# Altium integrated library Microchip Microcontroller 8-Bit PIC10.IntLib: 60 symbols (part 2 of 2)
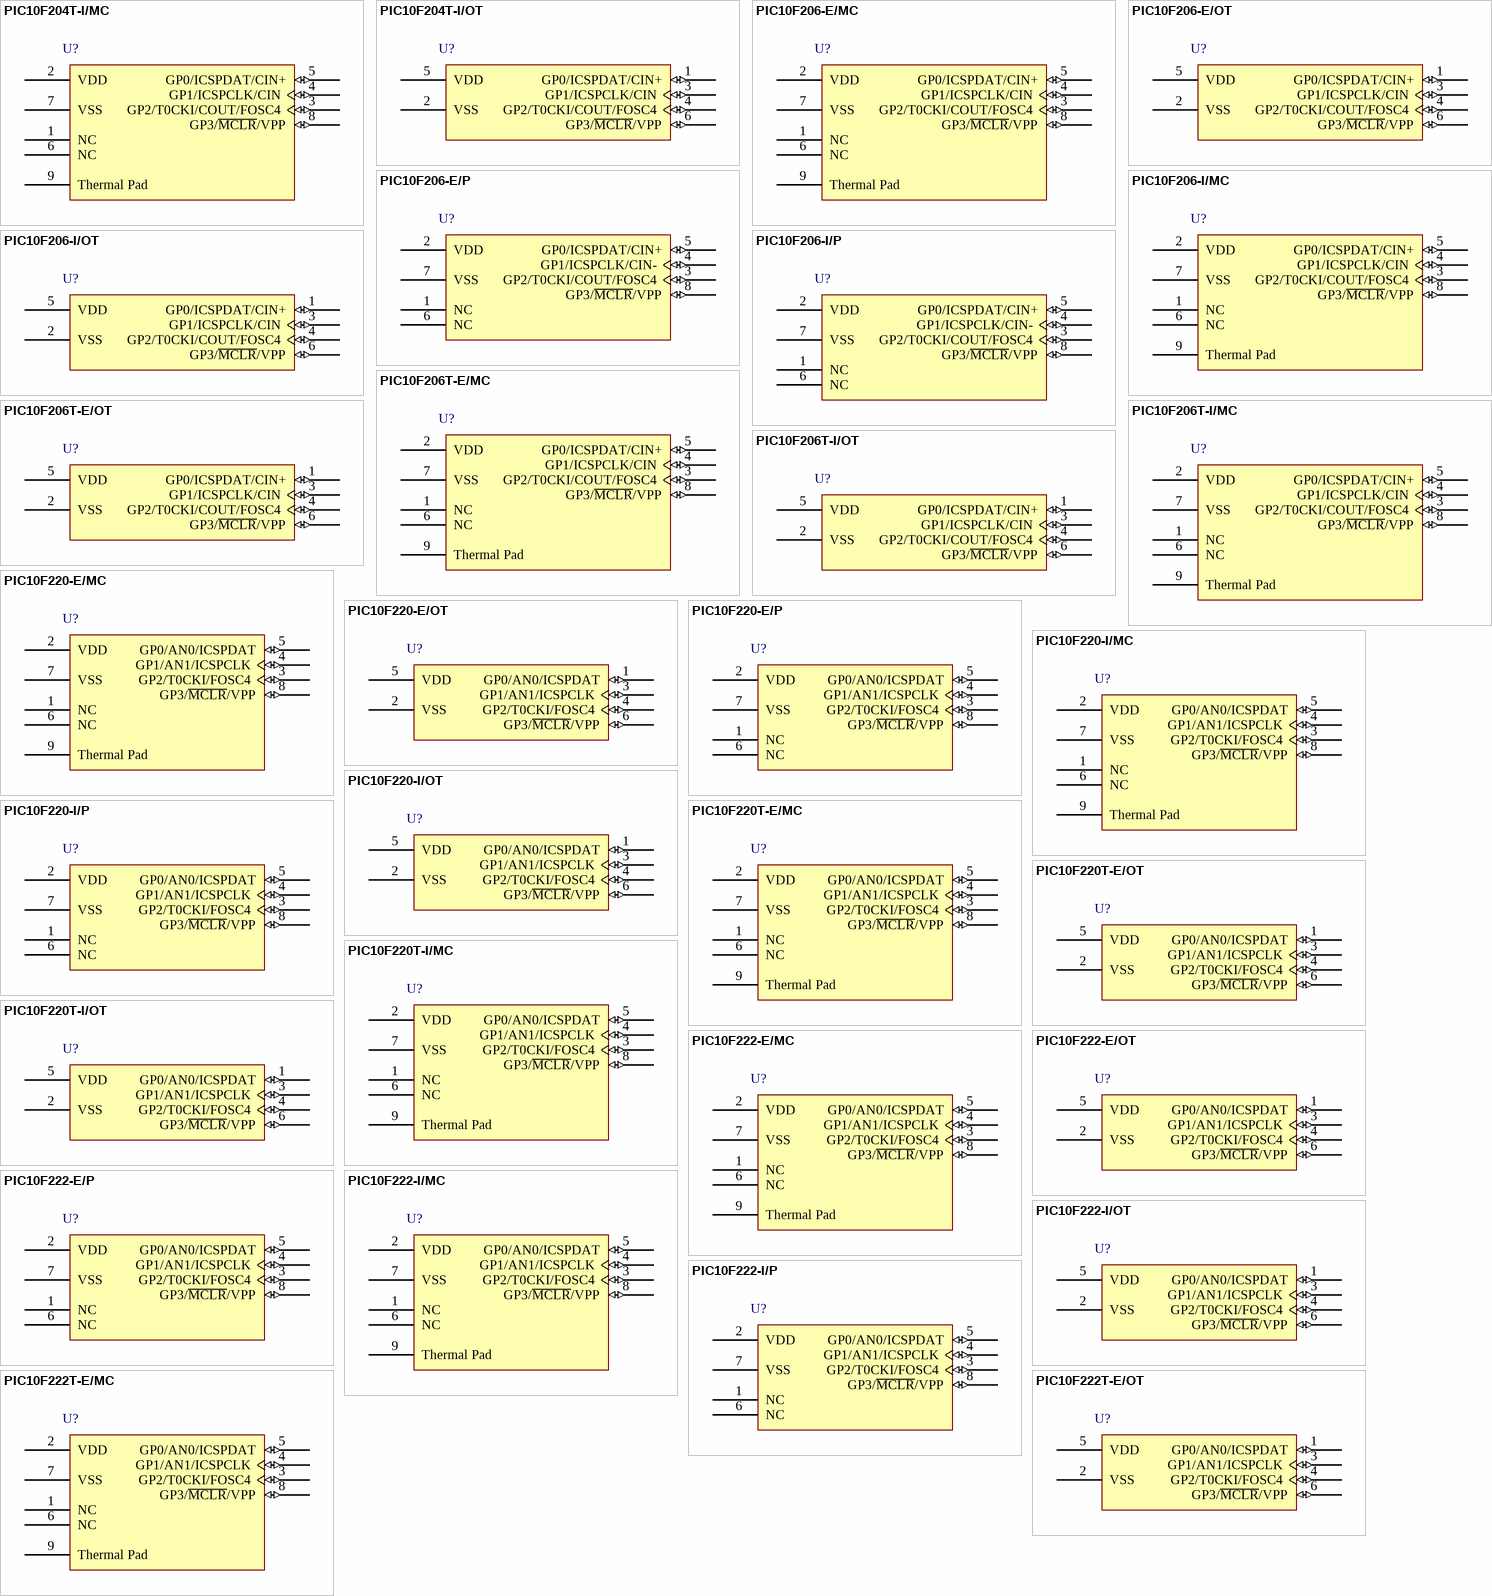
[diagram p3: symbols PIC10F204T-I/MC to PIC10F222T-E/OT]

## PIC10F220-E/P
designator U?
High-Performance Microcontroller with 8-bit A/D, 256 (x12-Bit words) Program Memory, 16 Bytes Data Memory, 8-Pin PDIP, Extended Temperature; Published: 29-Jan-2009; DatasheetVersion: revE, Jun-2007; PackageVersion: revBB, Aug-2009; PackageReference: PDIP300-P8; Publisher: Altium Limited; PackageDescription: 8-Lead Plastic Dual In-Line (P) - 300 mil Body [PDIP]; Supplier 1: Digi-Key; Supplier Part Number 1: PIC10F220-E/P-ND; Code_JEDEC: MS-001; ComponentLink1Description: Datasheet; ComponentLink1URL: http://ww1.microchip.com/downloads/en/DeviceDoc/41270E.pdf; ComponentLink2Description: Packaging Specification; ComponentLink2URL: http://www.microchip.com/stellent/groups/techpub_sg/documents/packagingspec/en012702.pdf; ComponentLink3Description: Microchip.com Home; ComponentLink3URL: http://www.microchip.com/
footprint PDIP300-P8 (DIP, 8-Leads, Row Spacing 7.62mm, Pitch 2.54mm, Body 9.5x6.6mm)
pins: 1 NC, 2 VDD (power), 3 GP2/T0CKI/FOSC4 (io), 4 GP1/AN1/ICSPCLK (io), 5 GP0/AN0/ICSPDAT (io), 6 NC, 7 VSS (power), 8 GP3/~{MCLR}/VPP (io)

## PIC10F220-I/MC
designator U?
High-Performance Microcontroller with 8-bit A/D, 256 (x12-Bit words) Program Memory, 16 Bytes Data Memory, 8-Pin DFN, Industrial Temperature; Published: 29-Jan-2009; DatasheetVersion: revE, Jun-2007; PackageVersion: revBB, Aug-2009; PackageReference: DFN-MC8; Publisher: Altium Limited; PackageDescription: 8-Lead Plastic Dual Flat, No Lead Package (MC) - 2x3x0.9mm Body [DFN]; Supplier 1: Digi-Key; Supplier Part Number 1: PIC10F220-I/MC-ND; ComponentLink1Description: Datasheet; ComponentLink1URL: http://ww1.microchip.com/downloads/en/DeviceDoc/41270E.pdf; ComponentLink2Description: Packaging Specification; ComponentLink2URL: http://www.microchip.com/stellent/groups/techpub_sg/documents/packagingspec/en012702.pdf; ComponentLink3Description: Microchip.com Home; ComponentLink3URL: http://www.microchip.com/
footprint DFN-MC8 (SON, 8-Leads, Body 2x3mm, Pitch 0.5mm, Microchip Recommended)
pins: 1 NC, 2 VDD (power), 3 GP2/T0CKI/FOSC4 (io), 4 GP1/AN1/ICSPCLK (io), 5 GP0/AN0/ICSPDAT (io), 6 NC, 7 VSS (power), 8 GP3/~{MCLR}/VPP (io), 9 Thermal Pad

## PIC10F220-I/OT
designator U?
High-Performance Microcontroller with 8-bit A/D, 256 (x12-Bit words) Program Memory, 16 Bytes Data Memory, 6-Pin SOT-23, Industrial Temperature; Published: 29-Jan-2009; DatasheetVersion: revE, Jun-2007; PackageVersion: revBB, Aug-2009; PackageReference: SOT-23-OT6; Publisher: Altium Limited; PackageDescription: 6-Lead Plastic Small Outline Transistor (OT) [SOT-23]; Code_IPC: SOT26A-6; ComponentLink1Description: Datasheet; ComponentLink1URL: http://ww1.microchip.com/downloads/en/DeviceDoc/41270E.pdf; ComponentLink2Description: Packaging Specification; ComponentLink2URL: http://www.microchip.com/stellent/groups/techpub_sg/documents/packagingspec/en012702.pdf; ComponentLink3Description: Microchip.com Home; ComponentLink3URL: http://www.microchip.com/
footprint SOT-23-OT6_N (SOT23, 6-Leads, Body 2.9x1.6mm, Pitch 0.95mm, Lead Span 2.7mm, IPC Medium Density)
footprint SOT-23-OT6_L (SOT23, 6-Leads, Body 2.9x1.6mm, Pitch 0.95mm, Lead Span 2.7mm, IPC High Density)
footprint SOT-23-OT6_M (SOT23, 6-Leads, Body 2.9x1.6mm, Pitch 0.95mm, Lead Span 2.7mm, IPC Low Density)
pins: 1 GP0/AN0/ICSPDAT (io), 2 VSS (power), 3 GP1/AN1/ICSPCLK (io), 4 GP2/T0CKI/FOSC4 (io), 5 VDD (power), 6 GP3/~{MCLR}/VPP (io)

## PIC10F220-I/P
designator U?
High-Performance Microcontroller with 8-bit A/D, 256 (x12-Bit words) Program Memory, 16 Bytes Data Memory, 8-Pin PDIP, Industrial Temperature; Published: 29-Jan-2009; DatasheetVersion: revE, Jun-2007; PackageVersion: revBB, Aug-2009; PackageReference: PDIP300-P8; Publisher: Altium Limited; PackageDescription: 8-Lead Plastic Dual In-Line (P) - 300 mil Body [PDIP]; Supplier 1: Digi-Key; Supplier Part Number 1: PIC10F220-I/P-ND; Supplier 2: Farnell; Supplier Part Number 2: 9892508; Code_JEDEC: MS-001; ComponentLink1Description: Datasheet; ComponentLink1URL: http://ww1.microchip.com/downloads/en/DeviceDoc/41270E.pdf; ComponentLink2Description: Packaging Specification; ComponentLink2URL: http://www.microchip.com/stellent/groups/techpub_sg/documents/packagingspec/en012702.pdf; ComponentLink3Description: Microchip.com Home; ComponentLink3URL: http://www.microchip.com/
footprint PDIP300-P8 (DIP, 8-Leads, Row Spacing 7.62mm, Pitch 2.54mm, Body 9.5x6.6mm)
pins: 1 NC, 2 VDD (power), 3 GP2/T0CKI/FOSC4 (io), 4 GP1/AN1/ICSPCLK (io), 5 GP0/AN0/ICSPDAT (io), 6 NC, 7 VSS (power), 8 GP3/~{MCLR}/VPP (io)

## PIC10F220T-E/MC
designator U?
High-Performance Microcontroller with 8-bit A/D, 256 (x12-Bit words) Program Memory, 16 Bytes Data Memory, 8-Pin DFN, Extended Temperature, Tape and Reel; Published: 29-Jan-2009; DatasheetVersion: revE, Jun-2007; PackageVersion: revBB, Aug-2009; PackageReference: DFN-MC8; Publisher: Altium Limited; PackageDescription: 8-Lead Plastic Dual Flat, No Lead Package (MC) - 2x3x0.9mm Body [DFN]; ComponentLink1Description: Datasheet; ComponentLink1URL: http://ww1.microchip.com/downloads/en/DeviceDoc/41270E.pdf; ComponentLink2Description: Packaging Specification; ComponentLink2URL: http://www.microchip.com/stellent/groups/techpub_sg/documents/packagingspec/en012702.pdf; ComponentLink3Description: Microchip.com Home; ComponentLink3URL: http://www.microchip.com/
footprint DFN-MC8 (SON, 8-Leads, Body 2x3mm, Pitch 0.5mm, Microchip Recommended)
pins: 1 NC, 2 VDD (power), 3 GP2/T0CKI/FOSC4 (io), 4 GP1/AN1/ICSPCLK (io), 5 GP0/AN0/ICSPDAT (io), 6 NC, 7 VSS (power), 8 GP3/~{MCLR}/VPP (io), 9 Thermal Pad

## PIC10F220T-E/OT
designator U?
High-Performance Microcontroller with 8-bit A/D, 256 (x12-Bit words) Program Memory, 16 Bytes Data Memory, 6-Pin SOT-23, Extended Temperature, Tape and Reel; Published: 29-Jan-2009; DatasheetVersion: revE, Jun-2007; PackageVersion: revBB, Aug-2009; PackageReference: SOT-23-OT6; Publisher: Altium Limited; PackageDescription: 6-Lead Plastic Small Outline Transistor (OT) [SOT-23]; Supplier 1: Digi-Key; Supplier Part Number 1: PIC10F220T-E/OT-ND; Code_IPC: SOT26A-6; ComponentLink1Description: Datasheet; ComponentLink1URL: http://ww1.microchip.com/downloads/en/DeviceDoc/41270E.pdf; ComponentLink2Description: Packaging Specification; ComponentLink2URL: http://www.microchip.com/stellent/groups/techpub_sg/documents/packagingspec/en012702.pdf; ComponentLink3Description: Microchip.com Home; ComponentLink3URL: http://www.microchip.com/
footprint SOT-23-OT6_N (SOT23, 6-Leads, Body 2.9x1.6mm, Pitch 0.95mm, Lead Span 2.7mm, IPC Medium Density)
footprint SOT-23-OT6_L (SOT23, 6-Leads, Body 2.9x1.6mm, Pitch 0.95mm, Lead Span 2.7mm, IPC High Density)
footprint SOT-23-OT6_M (SOT23, 6-Leads, Body 2.9x1.6mm, Pitch 0.95mm, Lead Span 2.7mm, IPC Low Density)
pins: 1 GP0/AN0/ICSPDAT (io), 2 VSS (power), 3 GP1/AN1/ICSPCLK (io), 4 GP2/T0CKI/FOSC4 (io), 5 VDD (power), 6 GP3/~{MCLR}/VPP (io)

## PIC10F220T-I/MC
designator U?
High-Performance Microcontroller with 8-bit A/D, 256 (x12-Bit words) Program Memory, 16 Bytes Data Memory, 8-Pin DFN, Industrial Temperature, Tape and Reel; Published: 29-Jan-2009; DatasheetVersion: revE, Jun-2007; PackageVersion: revBB, Aug-2009; PackageReference: DFN-MC8; Publisher: Altium Limited; PackageDescription: 8-Lead Plastic Dual Flat, No Lead Package (MC) - 2x3x0.9mm Body [DFN]; Supplier 1: Digi-Key; Supplier Part Number 1: PIC10F220T-I/MC-ND; Supplier 2: Farnell; Supplier Part Number 2: 1332174; ComponentLink1Description: Datasheet; ComponentLink1URL: http://ww1.microchip.com/downloads/en/DeviceDoc/41270E.pdf; ComponentLink2Description: Packaging Specification; ComponentLink2URL: http://www.microchip.com/stellent/groups/techpub_sg/documents/packagingspec/en012702.pdf; ComponentLink3Description: Microchip.com Home; ComponentLink3URL: http://www.microchip.com/
footprint DFN-MC8 (SON, 8-Leads, Body 2x3mm, Pitch 0.5mm, Microchip Recommended)
pins: 1 NC, 2 VDD (power), 3 GP2/T0CKI/FOSC4 (io), 4 GP1/AN1/ICSPCLK (io), 5 GP0/AN0/ICSPDAT (io), 6 NC, 7 VSS (power), 8 GP3/~{MCLR}/VPP (io), 9 Thermal Pad

## PIC10F220T-I/OT
designator U?
High-Performance Microcontroller with 8-bit A/D, 256 (x12-Bit words) Program Memory, 16 Bytes Data Memory, 6-Pin SOT-23, Industrial Temperature, Tape and Reel; Published: 29-Jan-2009; DatasheetVersion: revE, Jun-2007; PackageVersion: revBB, Aug-2009; PackageReference: SOT-23-OT6; Publisher: Altium Limited; PackageDescription: 6-Lead Plastic Small Outline Transistor (OT) [SOT-23]; Supplier 1: Digi-Key; Supplier Part Number 1: PIC10F220T-I/OTTR-ND; Supplier 2: Digi-Key; Supplier Part Number 2: PIC10F220T-I/OTCT-ND; Supplier 3: Digi-Key; Supplier Part Number 3: PIC10F220T-I/OTDKR-ND; Supplier 4: Farnell; Supplier Part Number 4: 1332175; Code_IPC: SOT26A-6; ComponentLink1Description: Datasheet; ComponentLink1URL: http://ww1.microchip.com/downloads/en/DeviceDoc/41270E.pdf; ComponentLink2Description: Packaging Specification; ComponentLink2URL: http://www.microchip.com/stellent/groups/techpub_sg/documents/packagingspec/en012702.pdf; ComponentLink3Description: Microchip.com Home; ComponentLink3URL: http://www.microchip.com/
footprint SOT-23-OT6_N (SOT23, 6-Leads, Body 2.9x1.6mm, Pitch 0.95mm, Lead Span 2.7mm, IPC Medium Density)
footprint SOT-23-OT6_L (SOT23, 6-Leads, Body 2.9x1.6mm, Pitch 0.95mm, Lead Span 2.7mm, IPC High Density)
footprint SOT-23-OT6_M (SOT23, 6-Leads, Body 2.9x1.6mm, Pitch 0.95mm, Lead Span 2.7mm, IPC Low Density)
pins: 1 GP0/AN0/ICSPDAT (io), 2 VSS (power), 3 GP1/AN1/ICSPCLK (io), 4 GP2/T0CKI/FOSC4 (io), 5 VDD (power), 6 GP3/~{MCLR}/VPP (io)

## PIC10F222-E/MC
designator U?
High-Performance Microcontroller with 8-bit A/D, 512 (x12-Bit words) Program Memory, 23 Bytes Data Memory, 8-Pin DFN, Extended Temperature; Published: 29-Jan-2009; DatasheetVersion: revE, Jun-2007; PackageVersion: revBB, Aug-2009; PackageReference: DFN-MC8; Publisher: Altium Limited; PackageDescription: 8-Lead Plastic Dual Flat, No Lead Package (MC) - 2x3x0.9mm Body [DFN]; Supplier 1: Digi-Key; Supplier Part Number 1: PIC10F222-E/MC-ND; ComponentLink1Description: Datasheet; ComponentLink1URL: http://ww1.microchip.com/downloads/en/DeviceDoc/41270E.pdf; ComponentLink2Description: Packaging Specification; ComponentLink2URL: http://www.microchip.com/stellent/groups/techpub_sg/documents/packagingspec/en012702.pdf; ComponentLink3Description: Microchip.com Home; ComponentLink3URL: http://www.microchip.com/
footprint DFN-MC8 (SON, 8-Leads, Body 2x3mm, Pitch 0.5mm, Microchip Recommended)
pins: 1 NC, 2 VDD (power), 3 GP2/T0CKI/FOSC4 (io), 4 GP1/AN1/ICSPCLK (io), 5 GP0/AN0/ICSPDAT (io), 6 NC, 7 VSS (power), 8 GP3/~{MCLR}/VPP (io), 9 Thermal Pad

## PIC10F222-E/OT
designator U?
High-Performance Microcontroller with 8-bit A/D, 512 (x12-Bit words) Program Memory, 23 Bytes Data Memory, 6-Pin SOT-23, Extended Temperature; Published: 29-Jan-2009; DatasheetVersion: revE, Jun-2007; PackageVersion: revBB, Aug-2009; PackageReference: SOT-23-OT6; Publisher: Altium Limited; PackageDescription: 6-Lead Plastic Small Outline Transistor (OT) [SOT-23]; Code_IPC: SOT26A-6; ComponentLink1Description: Datasheet; ComponentLink1URL: http://ww1.microchip.com/downloads/en/DeviceDoc/41270E.pdf; ComponentLink2Description: Packaging Specification; ComponentLink2URL: http://www.microchip.com/stellent/groups/techpub_sg/documents/packagingspec/en012702.pdf; ComponentLink3Description: Microchip.com Home; ComponentLink3URL: http://www.microchip.com/
footprint SOT-23-OT6_N (SOT23, 6-Leads, Body 2.9x1.6mm, Pitch 0.95mm, Lead Span 2.7mm, IPC Medium Density)
footprint SOT-23-OT6_L (SOT23, 6-Leads, Body 2.9x1.6mm, Pitch 0.95mm, Lead Span 2.7mm, IPC High Density)
footprint SOT-23-OT6_M (SOT23, 6-Leads, Body 2.9x1.6mm, Pitch 0.95mm, Lead Span 2.7mm, IPC Low Density)
pins: 1 GP0/AN0/ICSPDAT (io), 2 VSS (power), 3 GP1/AN1/ICSPCLK (io), 4 GP2/T0CKI/FOSC4 (io), 5 VDD (power), 6 GP3/~{MCLR}/VPP (io)

## PIC10F222-E/P
designator U?
High-Performance Microcontroller with 8-bit A/D, 512 (x12-Bit words) Program Memory, 23 Bytes Data Memory, 8-Pin PDIP, Extended Temperature; Published: 29-Jan-2009; DatasheetVersion: revE, Jun-2007; PackageVersion: revBB, Aug-2009; PackageReference: PDIP300-P8; Publisher: Altium Limited; PackageDescription: 8-Lead Plastic Dual In-Line (P) - 300 mil Body [PDIP]; Supplier 1: Digi-Key; Supplier Part Number 1: PIC10F222-E/P-ND; Supplier 2: Farnell; Supplier Part Number 2: 1262566; Supplier 3: Farnell; Supplier Part Number 3: 1467796; Code_JEDEC: MS-001; ComponentLink1Description: Datasheet; ComponentLink1URL: http://ww1.microchip.com/downloads/en/DeviceDoc/41270E.pdf; ComponentLink2Description: Packaging Specification; ComponentLink2URL: http://www.microchip.com/stellent/groups/techpub_sg/documents/packagingspec/en012702.pdf; ComponentLink3Description: Microchip.com Home; ComponentLink3URL: http://www.microchip.com/
footprint PDIP300-P8 (DIP, 8-Leads, Row Spacing 7.62mm, Pitch 2.54mm, Body 9.5x6.6mm)
pins: 1 NC, 2 VDD (power), 3 GP2/T0CKI/FOSC4 (io), 4 GP1/AN1/ICSPCLK (io), 5 GP0/AN0/ICSPDAT (io), 6 NC, 7 VSS (power), 8 GP3/~{MCLR}/VPP (io)

## PIC10F222-I/MC
designator U?
High-Performance Microcontroller with 8-bit A/D, 512 (x12-Bit words) Program Memory, 23 Bytes Data Memory, 8-Pin DFN, Industrial Temperature; Published: 29-Jan-2009; DatasheetVersion: revE, Jun-2007; PackageVersion: revBB, Aug-2009; PackageReference: DFN-MC8; Publisher: Altium Limited; PackageDescription: 8-Lead Plastic Dual Flat, No Lead Package (MC) - 2x3x0.9mm Body [DFN]; Supplier 1: Digi-Key; Supplier Part Number 1: PIC10F222-I/MC-ND; ComponentLink1Description: Datasheet; ComponentLink1URL: http://ww1.microchip.com/downloads/en/DeviceDoc/41270E.pdf; ComponentLink2Description: Packaging Specification; ComponentLink2URL: http://www.microchip.com/stellent/groups/techpub_sg/documents/packagingspec/en012702.pdf; ComponentLink3Description: Microchip.com Home; ComponentLink3URL: http://www.microchip.com/
footprint DFN-MC8 (SON, 8-Leads, Body 2x3mm, Pitch 0.5mm, Microchip Recommended)
pins: 1 NC, 2 VDD (power), 3 GP2/T0CKI/FOSC4 (io), 4 GP1/AN1/ICSPCLK (io), 5 GP0/AN0/ICSPDAT (io), 6 NC, 7 VSS (power), 8 GP3/~{MCLR}/VPP (io), 9 Thermal Pad

## PIC10F222-I/OT
designator U?
High-Performance Microcontroller with 8-bit A/D, 512 (x12-Bit words) Program Memory, 23 Bytes Data Memory, 6-Pin SOT-23, Industrial Temperature; Published: 29-Jan-2009; DatasheetVersion: revE, Jun-2007; PackageVersion: revBB, Aug-2009; PackageReference: SOT-23-OT6; Publisher: Altium Limited; PackageDescription: 6-Lead Plastic Small Outline Transistor (OT) [SOT-23]; Code_IPC: SOT26A-6; ComponentLink1Description: Datasheet; ComponentLink1URL: http://ww1.microchip.com/downloads/en/DeviceDoc/41270E.pdf; ComponentLink2Description: Packaging Specification; ComponentLink2URL: http://www.microchip.com/stellent/groups/techpub_sg/documents/packagingspec/en012702.pdf; ComponentLink3Description: Microchip.com Home; ComponentLink3URL: http://www.microchip.com/
footprint SOT-23-OT6_N (SOT23, 6-Leads, Body 2.9x1.6mm, Pitch 0.95mm, Lead Span 2.7mm, IPC Medium Density)
footprint SOT-23-OT6_L (SOT23, 6-Leads, Body 2.9x1.6mm, Pitch 0.95mm, Lead Span 2.7mm, IPC High Density)
footprint SOT-23-OT6_M (SOT23, 6-Leads, Body 2.9x1.6mm, Pitch 0.95mm, Lead Span 2.7mm, IPC Low Density)
pins: 1 GP0/AN0/ICSPDAT (io), 2 VSS (power), 3 GP1/AN1/ICSPCLK (io), 4 GP2/T0CKI/FOSC4 (io), 5 VDD (power), 6 GP3/~{MCLR}/VPP (io)

## PIC10F222-I/P
designator U?
High-Performance Microcontroller with 8-bit A/D, 512 (x12-Bit words) Program Memory, 23 Bytes Data Memory, 8-Pin PDIP, Industrial Temperature; Published: 29-Jan-2009; DatasheetVersion: revE, Jun-2007; PackageVersion: revBB, Aug-2009; PackageReference: PDIP300-P8; Publisher: Altium Limited; PackageDescription: 8-Lead Plastic Dual In-Line (P) - 300 mil Body [PDIP]; Supplier 1: Digi-Key; Supplier Part Number 1: PIC10F222-I/P-ND; Supplier 2: Farnell; Supplier Part Number 2: 9892516; Code_JEDEC: MS-001; ComponentLink1Description: Datasheet; ComponentLink1URL: http://ww1.microchip.com/downloads/en/DeviceDoc/41270E.pdf; ComponentLink2Description: Packaging Specification; ComponentLink2URL: http://www.microchip.com/stellent/groups/techpub_sg/documents/packagingspec/en012702.pdf; ComponentLink3Description: Microchip.com Home; ComponentLink3URL: http://www.microchip.com/
footprint PDIP300-P8 (DIP, 8-Leads, Row Spacing 7.62mm, Pitch 2.54mm, Body 9.5x6.6mm)
pins: 1 NC, 2 VDD (power), 3 GP2/T0CKI/FOSC4 (io), 4 GP1/AN1/ICSPCLK (io), 5 GP0/AN0/ICSPDAT (io), 6 NC, 7 VSS (power), 8 GP3/~{MCLR}/VPP (io)

## PIC10F222T-E/MC
designator U?
High-Performance Microcontroller with 8-bit A/D, 512 (x12-Bit words) Program Memory, 23 Bytes Data Memory, 8-Pin DFN, Extended Temperature, Tape and Reel; Published: 29-Jan-2009; DatasheetVersion: revE, Jun-2007; PackageVersion: revBB, Aug-2009; PackageReference: DFN-MC8; Publisher: Altium Limited; PackageDescription: 8-Lead Plastic Dual Flat, No Lead Package (MC) - 2x3x0.9mm Body [DFN]; ComponentLink1Description: Datasheet; ComponentLink1URL: http://ww1.microchip.com/downloads/en/DeviceDoc/41270E.pdf; ComponentLink2Description: Packaging Specification; ComponentLink2URL: http://www.microchip.com/stellent/groups/techpub_sg/documents/packagingspec/en012702.pdf; ComponentLink3Description: Microchip.com Home; ComponentLink3URL: http://www.microchip.com/
footprint DFN-MC8 (SON, 8-Leads, Body 2x3mm, Pitch 0.5mm, Microchip Recommended)
pins: 1 NC, 2 VDD (power), 3 GP2/T0CKI/FOSC4 (io), 4 GP1/AN1/ICSPCLK (io), 5 GP0/AN0/ICSPDAT (io), 6 NC, 7 VSS (power), 8 GP3/~{MCLR}/VPP (io), 9 Thermal Pad

## PIC10F222T-E/OT
designator U?
High-Performance Microcontroller with 8-bit A/D, 512 (x12-Bit words) Program Memory, 23 Bytes Data Memory, 6-Pin SOT-23, Extended Temperature, Tape and Reel; Published: 29-Jan-2009; DatasheetVersion: revE, Jun-2007; PackageVersion: revBB, Aug-2009; PackageReference: SOT-23-OT6; Publisher: Altium Limited; PackageDescription: 6-Lead Plastic Small Outline Transistor (OT) [SOT-23]; Supplier 1: Digi-Key; Supplier Part Number 1: PIC10F222T-E/OT-ND; Code_IPC: SOT26A-6; ComponentLink1Description: Datasheet; ComponentLink1URL: http://ww1.microchip.com/downloads/en/DeviceDoc/41270E.pdf; ComponentLink2Description: Packaging Specification; ComponentLink2URL: http://www.microchip.com/stellent/groups/techpub_sg/documents/packagingspec/en012702.pdf; ComponentLink3Description: Microchip.com Home; ComponentLink3URL: http://www.microchip.com/
footprint SOT-23-OT6_N (SOT23, 6-Leads, Body 2.9x1.6mm, Pitch 0.95mm, Lead Span 2.7mm, IPC Medium Density)
footprint SOT-23-OT6_L (SOT23, 6-Leads, Body 2.9x1.6mm, Pitch 0.95mm, Lead Span 2.7mm, IPC High Density)
footprint SOT-23-OT6_M (SOT23, 6-Leads, Body 2.9x1.6mm, Pitch 0.95mm, Lead Span 2.7mm, IPC Low Density)
pins: 1 GP0/AN0/ICSPDAT (io), 2 VSS (power), 3 GP1/AN1/ICSPCLK (io), 4 GP2/T0CKI/FOSC4 (io), 5 VDD (power), 6 GP3/~{MCLR}/VPP (io)

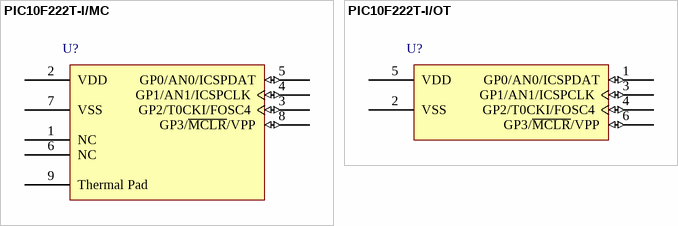
[diagram p2: symbols PIC10F222T-I/MC to PIC10F222T-I/OT]

## PIC10F222T-I/MC
designator U?
High-Performance Microcontroller with 8-bit A/D, 512 (x12-Bit words) Program Memory, 23 Bytes Data Memory, 8-Pin DFN, Industrial Temperature, Tape and Reel; Published: 29-Jan-2009; DatasheetVersion: revE, Jun-2007; PackageVersion: revBB, Aug-2009; PackageReference: DFN-MC8; Publisher: Altium Limited; PackageDescription: 8-Lead Plastic Dual Flat, No Lead Package (MC) - 2x3x0.9mm Body [DFN]; Supplier 1: Digi-Key; Supplier Part Number 1: PIC10F222T-I/MC-ND; Supplier 2: Farnell; Supplier Part Number 2: 1332176; ComponentLink1Description: Datasheet; ComponentLink1URL: http://ww1.microchip.com/downloads/en/DeviceDoc/41270E.pdf; ComponentLink2Description: Packaging Specification; ComponentLink2URL: http://www.microchip.com/stellent/groups/techpub_sg/documents/packagingspec/en012702.pdf; ComponentLink3Description: Microchip.com Home; ComponentLink3URL: http://www.microchip.com/
footprint DFN-MC8 (SON, 8-Leads, Body 2x3mm, Pitch 0.5mm, Microchip Recommended)
pins: 1 NC, 2 VDD (power), 3 GP2/T0CKI/FOSC4 (io), 4 GP1/AN1/ICSPCLK (io), 5 GP0/AN0/ICSPDAT (io), 6 NC, 7 VSS (power), 8 GP3/~{MCLR}/VPP (io), 9 Thermal Pad

## PIC10F222T-I/OT
designator U?
High-Performance Microcontroller with 8-bit A/D, 512 (x12-Bit words) Program Memory, 23 Bytes Data Memory, 6-Pin SOT-23, Industrial Temperature, Tape and Reel; Published: 29-Jan-2009; DatasheetVersion: revE, Jun-2007; PackageVersion: revBB, Aug-2009; PackageReference: SOT-23-OT6; Publisher: Altium Limited; PackageDescription: 6-Lead Plastic Small Outline Transistor (OT) [SOT-23]; Supplier 1: Digi-Key; Supplier Part Number 1: PIC10F222T-I/OTTR-ND; Supplier 2: Digi-Key; Supplier Part Number 2: PIC10F222T-I/OTCT-ND; Supplier 3: Digi-Key; Supplier Part Number 3: PIC10F222T-I/OTDKR-ND; Supplier 4: Farnell; Supplier Part Number 4: 1332177; Code_IPC: SOT26A-6; ComponentLink1Description: Datasheet; ComponentLink1URL: http://ww1.microchip.com/downloads/en/DeviceDoc/41270E.pdf; ComponentLink2Description: Packaging Specification; ComponentLink2URL: http://www.microchip.com/stellent/groups/techpub_sg/documents/packagingspec/en012702.pdf; ComponentLink3Description: Microchip.com Home; ComponentLink3URL: http://www.microchip.com/
footprint SOT-23-OT6_N (SOT23, 6-Leads, Body 2.9x1.6mm, Pitch 0.95mm, Lead Span 2.7mm, IPC Medium Density)
footprint SOT-23-OT6_L (SOT23, 6-Leads, Body 2.9x1.6mm, Pitch 0.95mm, Lead Span 2.7mm, IPC High Density)
footprint SOT-23-OT6_M (SOT23, 6-Leads, Body 2.9x1.6mm, Pitch 0.95mm, Lead Span 2.7mm, IPC Low Density)
pins: 1 GP0/AN0/ICSPDAT (io), 2 VSS (power), 3 GP1/AN1/ICSPCLK (io), 4 GP2/T0CKI/FOSC4 (io), 5 VDD (power), 6 GP3/~{MCLR}/VPP (io)